# Altium footprint library HV9006_MEASUREBOARD.PCBLIB: 292 footprints (part 4 of 19)
Each footprint in its own frame and in the unit in brackets; x right, y up, seen from the top. Pads: shape width x height; smd on the part's side, far side on the other; paste and mask are expansions set on the pad; w line width, h text height; cw(c..) or ccw(c..) is an arc to the next point about the centre after c.
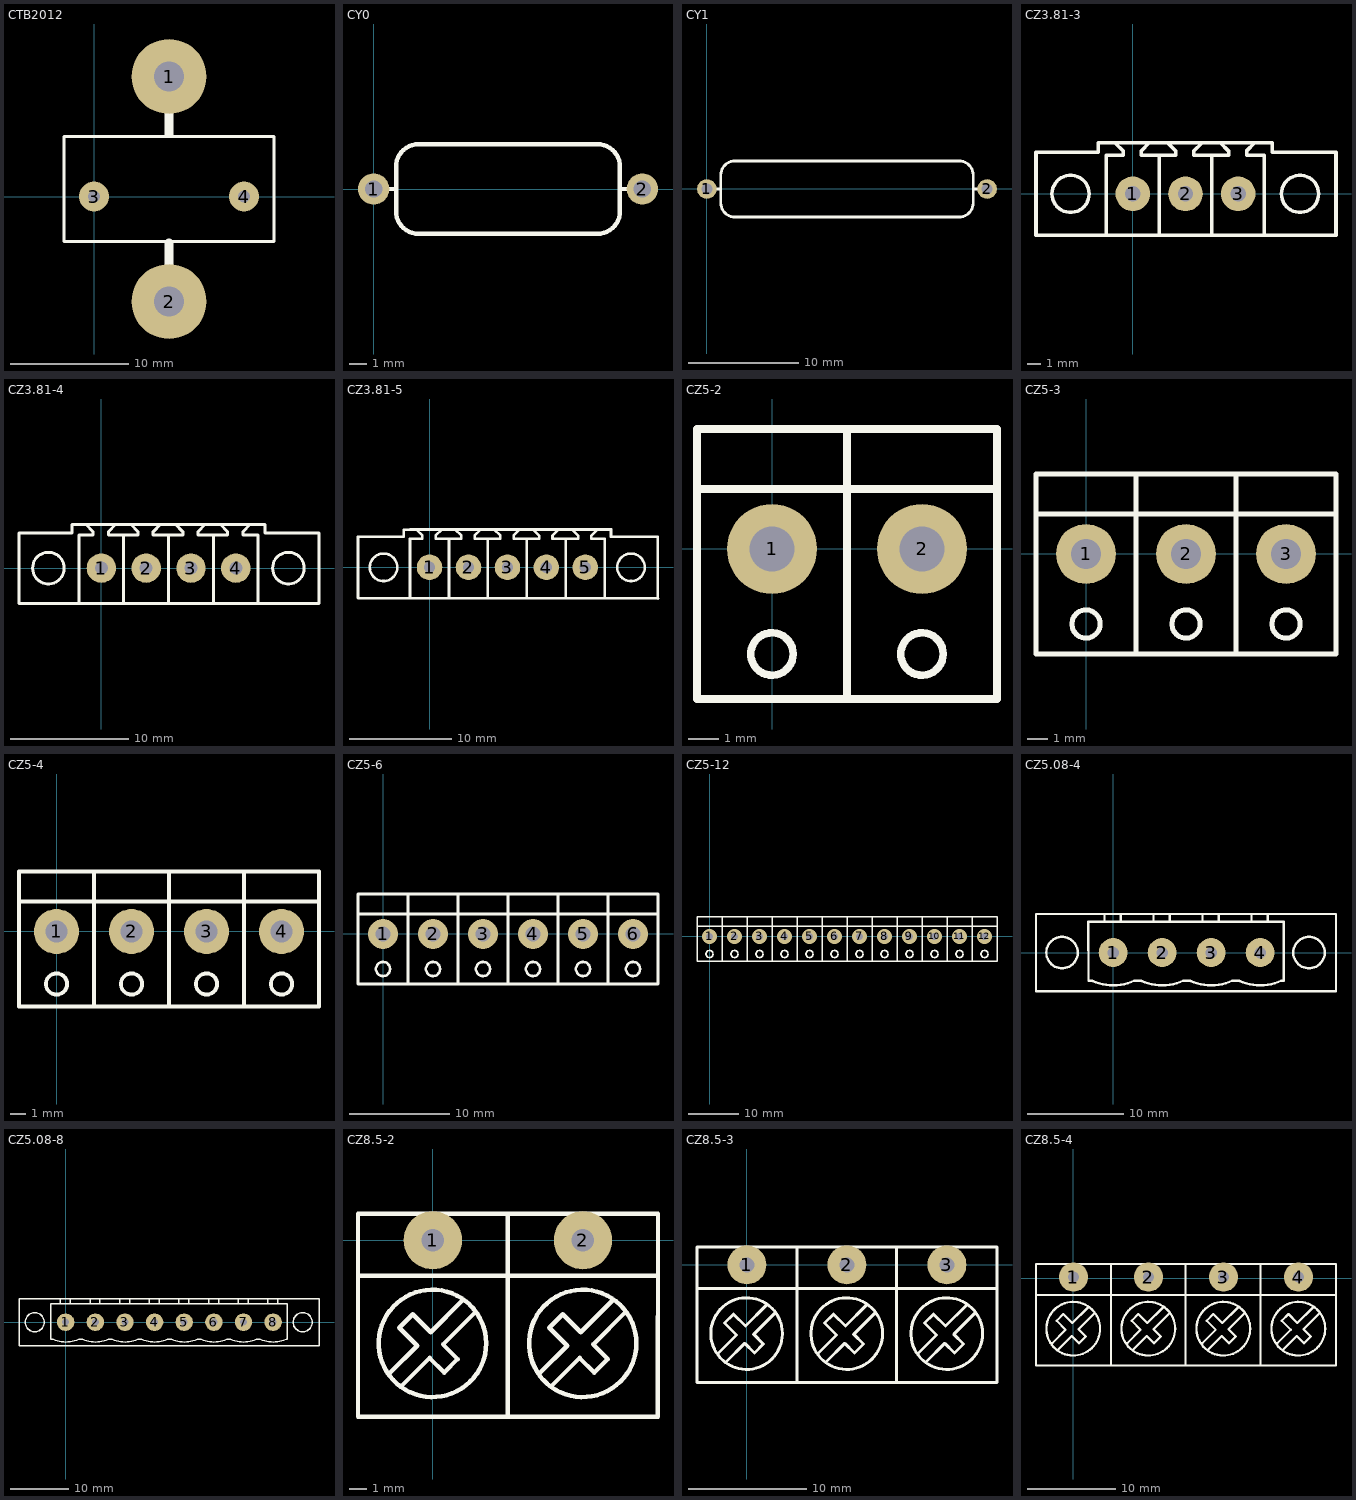
[diagram p3: the footprints below, top view; thin cyan lines are the x and y axes]

## CTB2012 [mil]
pads (4):
  round 250 hole 100: 1(250,400) 2(250,-350)
  round 100 hole 39: 3(0,0) 4(500,0)
Top Overlay:
  lines w10: -100,-150 600,-150 600,200 -100,200 -100,-150
  lines w30: 250,-350 250,-155 ; 250,210 250,400

## CY0 [mil]
pads (2):
  round 70 hole 39: 1(0,0) 2(600,0)
Top Overlay:
  lines w10: 0,0 50,0 ; 550,0 600,0 ; 50,-50 ccw(c100,-50) 100,-100 500,-100 ccw(c500,-50) 550,-50 550,50 ccw(c500,50) 500,100 100,100 ccw(c100,50) 50,50 50,-50

## CY1 [mil]
pads (2):
  round 70 hole 39: 1(0,0) 2(1000,0)
Top Overlay:
  lines w10: 0,0 50,0 ; 950,0 1000,0 ; 50,-50 ccw(c100,-50) 100,-100 900,-100 ccw(c900,-50) 950,-50 950,50 ccw(c900,50) 900,100 100,100 ccw(c100,50) 50,50 50,-50

## CZ3.81-3 [mm]
pads (3):
  round 2.5 hole 1.1: 1(0,0) 2(3.81,0) 3(7.62,0)
Top Overlay:
  circle w0.254: c12.09,0 r1.345
  circle w0.254: c-4.5,0 r1.345
  lines w0.254: -1.91,-3 -1.91,2.8 -0.7,2.8 -0.7,3.1 -1.3,3.7 ; 1.2,3.7 0.6,3.1 0.6,2.8 1.9,2.8 ; 1.9,-3 1.9,2.8 ; 2.51,3.7 3.11,3.1 3.11,2.8 1.9,2.8 ; 5.01,3.7 4.41,3.1 4.41,2.8 5.71,2.8 ; 5.71,-3 5.71,2.8 ; 6.32,3.7 6.92,3.1 6.92,2.8 5.71,2.8 ; 8.82,3.7 8.22,3.1 8.22,2.8 9.52,2.8 9.52,-3 ; -7,-3 14.69,-3 14.69,3 10.09,3 10.09,3.7 -1.9,3.7 -2.51,3.69 -2.51,3 -7,3 -7,-3

## CZ3.81-4 [mm]
pads (4):
  round 2.5 hole 1.1: 1(0,0) 2(3.81,0) 3(7.62,0) 4(11.43,0)
Top Overlay:
  circle w0.254: c15.9,0 r1.345
  circle w0.254: c-4.5,0 r1.345
  lines w0.254: -1.91,-3 -1.91,2.8 -0.7,2.8 -0.7,3.1 -1.3,3.7 ; 1.2,3.7 0.6,3.1 0.6,2.8 1.9,2.8 ; 1.9,-3 1.9,2.8 ; 2.51,3.7 3.11,3.1 3.11,2.8 1.9,2.8 ; 5.01,3.7 4.41,3.1 4.41,2.8 5.71,2.8 ; 5.71,-3 5.71,2.8 ; 6.32,3.7 6.92,3.1 6.92,2.8 5.71,2.8 ; 8.82,3.7 8.22,3.1 8.22,2.8 9.52,2.8 ; 9.52,-3 9.52,2.8 ; 10.13,3.7 10.73,3.1 10.73,2.8 9.52,2.8 ; 12.63,3.7 12.03,3.1 12.03,2.8 13.33,2.8 13.33,-3 ; -7,-3 18.5,-3 18.5,3 13.9,3 13.9,3.7 -1.9,3.7 -2.51,3.69 -2.51,3 -7,3 -7,-3

## CZ3.81-5 [mm]
pads (5):
  round 2.5 hole 1.1: 1(0,0) 2(3.81,0) 3(7.62,0) 4(11.43,0) 5(15.24,0)
Top Overlay:
  circle w0.254: c19.71,0 r1.345
  circle w0.254: c-4.5,0 r1.345
  lines w0.254: -1.91,-3 -1.91,2.8 -0.7,2.8 -0.7,3.1 -1.3,3.7 ; 1.2,3.7 0.6,3.1 0.6,2.8 1.9,2.8 ; 1.9,-3 1.9,2.8 ; 2.51,3.7 3.11,3.1 3.11,2.8 1.9,2.8 ; 5.01,3.7 4.41,3.1 4.41,2.8 5.71,2.8 ; 5.71,-3 5.71,2.8 ; 6.32,3.7 6.92,3.1 6.92,2.8 5.71,2.8 ; 8.82,3.7 8.22,3.1 8.22,2.8 9.52,2.8 ; 9.52,-3 9.52,2.8 ; 10.13,3.7 10.73,3.1 10.73,2.8 9.52,2.8 ; 12.63,3.7 12.03,3.1 12.03,2.8 13.33,2.8 ; 13.33,-3 13.33,2.8 ; 13.94,3.7 14.54,3.1 14.54,2.8 13.33,2.8 ; 16.44,3.7 15.84,3.1 15.84,2.8 17.14,2.8 17.14,-3 ; 17.71,3.7 17.71,3 22.31,3 22.31,-3 ; 18.5,3 17.767,3 17.767,3.7 -1.9,3.7 -2.51,3.69 -2.51,3 -7,3 -7,-3 22.352,-3.048

## CZ5-2 [mm]
pads (2):
  round 3 hole 1.5: 1(0,0) 2(5,0)
Top Overlay:
  circle w0.254: c5,-3.5 r0.707
  circle w0.254: c0,-3.5 r0.707
  lines w0.254: -2.5,2 7.5,2 ; 2.5,-5 2.5,4 ; -2.5,-5 7.5,-5 7.5,4 -2.5,4 -2.5,-5

## CZ5-3 [mm]
pads (3):
  round 3 hole 1.5: 1(0,0) 2(5,0) 3(10,0)
Top Overlay:
  circle w0.254: c0,-3.5 r0.707
  circle w0.254: c5,-3.5 r0.707
  circle w0.254: c10,-3.5 r0.707
  lines w0.254: -2.5,2 7.5,2 12.5,2 ; 2.5,-5 2.5,4 ; 7.5,-5 -2.5,-5 -2.5,4 7.5,4 ; 7.5,-5 7.5,4 ; 7.5,-5 12.5,-5 12.5,4 7.5,4

## CZ5-4 [mm]
pads (4):
  round 3 hole 1.5: 1(0,0) 2(5,0) 3(10,0) 4(15,0)
Top Overlay:
  circle w0.254: c0,-3.5 r0.707
  circle w0.254: c5,-3.5 r0.707
  circle w0.254: c10,-3.5 r0.707
  circle w0.254: c15,-3.5 r0.707
  lines w0.254: -2.5,2 7.5,2 12.5,2 17.5,2 ; 2.5,-5 2.5,4 ; 7.5,-5 -2.5,-5 -2.5,4 7.5,4 ; 7.5,-5 7.5,4 ; 7.5,-5 12.5,-5 ; 7.5,4 12.5,4 ; 12.5,-5 17.5,-5 17.5,4 12.5,4 ; 12.5,-5 12.5,4

## CZ5-6 [mm]
pads (6):
  round 3 hole 1.5: 1(0,0) 2(5,0) 3(10,0) 4(15,0) 5(20,0) 6(25,0)
Top Overlay:
  circle w0.254: c15,-3.5 r0.707
  circle w0.254: c10,-3.5 r0.707
  circle w0.254: c5,-3.5 r0.707
  circle w0.254: c0,-3.5 r0.707
  circle w0.254: c25,-3.5 r0.707
  circle w0.254: c20,-3.5 r0.707
  lines w0.254: -2.5,2 7.5,2 12.5,2 17.5,2 22.5,2 27.5,2 ; 2.5,-5 2.5,4 ; 7.5,-5 12.5,-5 ; 7.5,-5 7.5,4 ; 7.5,-5 -2.5,-5 -2.5,4 7.5,4 ; 7.5,4 12.5,4 ; 12.5,-5 12.5,4 ; 12.5,-5 17.5,-5 ; 12.5,4 17.5,4 ; 17.5,-5 17.5,4 ; 17.5,-5 22.5,-5 ; 17.5,-5 17.5,4 ; 17.5,4 22.5,4 ; 22.5,-5 22.5,4 ; 22.5,-5 27.5,-5 27.5,4 22.5,4

## CZ5-12 [mm]
pads (12):
  round 3 hole 1.5: 1(0,0) 2(5,0) 3(10,0) 4(15,0) 5(20,0) 6(25,0) 7(30,0) 8(35,0) 9(40,0) 10(45,0) 11(50,0) 12(55,0)
Top Overlay:
  circle w0.254: c5,-3.5 r0.707
  circle w0.254: c0,-3.5 r0.707
  circle w0.254: c10,-3.5 r0.707
  circle w0.254: c15,-3.5 r0.707
  circle w0.254: c20,-3.5 r0.707
  circle w0.254: c25,-3.5 r0.707
  circle w0.254: c30,-3.5 r0.707
  circle w0.254: c35,-3.5 r0.707
  circle w0.254: c40,-3.5 r0.707
  circle w0.254: c45,-3.5 r0.707
  circle w0.254: c50,-3.5 r0.707
  circle w0.254: c55,-3.5 r0.707
  lines w0.254: -2.5,2 57.5,2 ; 2.5,-5 2.5,4 ; 7.5,-5 7.5,4 ; 12.5,-5 12.5,4 ; 17.5,-5 17.5,4 ; 22.5,-5 22.5,4 ; 27.5,-5 27.5,4 ; 32.5,-5 32.5,4 ; 37.5,-5 37.5,4 ; 42.5,-5 42.5,4 ; 47.5,-5 47.5,4 ; 52.5,-5 52.5,4 ; -2.5,-5 -2.5,4 57.5,4 57.5,-5 -2.5,-5

## CZ5.08-4 [mm]
pads (4):
  round 3 hole 1.2: 1(0,0) 2(5.08,0) 3(10.16,0) 4(15.24,0)
Top Overlay:
  circle w0.254: c20.3,0 r1.628
  circle w0.254: c-5.3,0 r1.628
  lines w0.254: -0.9,3.2 -0.9,4 ; 0.8,3.2 0.8,4 ; 2.893,-2.9 2.204,-2.9 cw(c0,1.709) -2.171,-2.916 -2.555,-2.916 -2.58,3.2 17.7,3.2 17.691,-2.9 17.444,-2.9 cw(c15.24,1.709) 13.069,-2.916 ; 2.909,-2.916 ccw(c5.08,1.709) 7.284,-2.9 7.973,-2.9 ; 4.18,3.2 4.18,4 ; 5.88,3.2 5.88,4 ; 7.989,-2.916 ccw(c10.16,1.709) 12.364,-2.9 13.053,-2.9 ; 9.26,3.2 9.26,4 ; 10.96,3.2 10.96,4 ; 14.34,3.2 14.34,4 ; 16.04,3.2 16.04,4 ; -8,-4 -8,4 23.1,4 23.1,-4 -8,-4

## CZ5.08-8 [mm]
pads (8):
  round 3 hole 1.2: 1(0,0) 2(5.08,0) 3(10.16,0) 4(15.24,0) 5(20.32,0) 6(25.4,0) 7(30.48,0) 8(35.56,0)
Top Overlay:
  circle w0.254: c-5.3,0 r1.628
  circle w0.254: c40.62,0 r1.628
  lines w0.254: -0.9,3.2 -0.9,4 ; 0.8,3.2 0.8,4 ; 2.893,-2.9 2.204,-2.9 cw(c0,1.709) -2.171,-2.916 -2.555,-2.916 -2.58,3.2 38.02,3.2 38.011,-2.9 37.764,-2.9 cw(c35.56,1.709) 33.389,-2.916 ; 2.909,-2.916 ccw(c5.08,1.709) 7.284,-2.9 7.973,-2.9 ; 4.18,3.2 4.18,4 ; 5.88,3.2 5.88,4 ; 7.989,-2.916 ccw(c10.16,1.709) 12.364,-2.9 13.053,-2.9 ; 9.26,3.2 9.26,4 ; 10.96,3.2 10.96,4 ; 13.069,-2.916 ccw(c15.24,1.709) 17.444,-2.9 18.149,-2.916 ccw(c20.32,1.709) 22.524,-2.9 23.213,-2.9 ; 14.34,3.2 14.34,4 ; 16.04,3.2 16.04,4 ; 19.42,3.2 19.42,4 ; 21.12,3.2 21.12,4 ; 23.229,-2.916 ccw(c25.4,1.709) 27.604,-2.9 28.309,-2.916 ccw(c30.48,1.709) 32.684,-2.9 33.373,-2.9 ; 24.5,3.2 24.5,4 ; 26.2,3.2 26.2,4 ; 29.58,3.2 29.58,4 ; 31.28,3.2 31.28,4 ; 34.66,3.2 34.66,4 ; 36.36,3.2 36.36,4 ; -8,-4 -8,4 43.42,4 43.42,-4 -8,-4

## CZ8.5-2 [mil]
pads (2):
  round 130 hole 50: 1(0,0) 2(334.65,0)
Top Overlay:
  circle w10: c-1,-230 r119.77
  circle w10: c334,-230 r119.77
  lines w10: -167,-197 -167,0 ; -167,-79 502,-79 ; -95,-295 -35,-235 -75,-195 -45,-165 -5,-205 65,-135 ; -70,-325 -7.5,-262.5 25,-295 55,-265 22.68,-232.32 95,-160 ; 167.32,-394 167.32,59 ; 239.65,-295 299.65,-235 259.65,-195 289.65,-165 329.65,-205 399.65,-135 ; 264.65,-325 327.15,-262.5 359.65,-295 389.65,-265 357.33,-232.32 429.65,-160 ; 501.97,-394 502,59 -167,59 -167,-394 502,-394 ; 502,-197 502,0

## CZ8.5-3 [mil]
pads (3):
  round 130 hole 50: 1(0,0) 2(334.65,0) 3(669.29,0)
Top Overlay:
  circle w10: c334,-230 r119.77
  circle w10: c-1,-230 r119.77
  circle w10: c668.65,-230 r119.77
  lines w10: -167,-197 -167,0 ; -167,-79 836.65,-80 ; -95,-295 -35,-235 -75,-195 -45,-165 -5,-205 65,-135 ; -70,-325 -7.5,-262.5 25,-295 55,-265 22.68,-232.32 95,-160 ; 167.32,-394 167.32,59 ; 239.65,-295 299.65,-235 259.65,-195 289.65,-165 329.65,-205 399.65,-135 ; 264.65,-325 327.15,-262.5 359.65,-295 389.65,-265 357.33,-232.32 429.65,-160 ; 500,-394 500,59 ; 574.29,-295 634.29,-235 594.29,-195 624.29,-165 664.29,-205 734.29,-135 ; 599.29,-325 661.79,-262.5 694.29,-295 724.29,-265 691.97,-232.32 764.29,-160 ; 836.65,-197 836.65,0 ; -167,-394 -167,59 836.65,59 836.61,-394 -167,-394

## CZ8.5-4 [mil]
pads (4):
  round 130 hole 50: 1(0,5) 2(334.65,5) 3(669.29,5) 4(1003.94,5)
Top Overlay:
  circle w10: c1003.29,-225 r119.77
  circle w10: c334,-225 r119.77
  circle w10: c-1,-225 r119.77
  circle w10: c668.65,-225 r119.77
  lines w10: -167,-192 -167,5 ; -167,-74 1171.29,-75 ; -95,-290 -35,-230 -75,-190 -45,-160 -5,-200 65,-130 ; -70,-320 -7.5,-257.5 25,-290 55,-260 22.68,-227.32 95,-155 ; 167.32,-389 167.32,64 ; 239.65,-290 299.65,-230 259.65,-190 289.65,-160 329.65,-200 399.65,-130 ; 264.65,-320 327.15,-257.5 359.65,-290 389.65,-260 357.33,-227.32 429.65,-155 ; 500,-389 500,64 ; 574.29,-290 634.29,-230 594.29,-190 624.29,-160 664.29,-200 734.29,-130 ; 599.29,-320 661.79,-257.5 694.29,-290 724.29,-260 691.97,-227.32 764.29,-155 ; 835,-389 835,64 ; 908.94,-290 968.94,-230 928.94,-190 958.94,-160 998.94,-200 1068.94,-130 ; 933.94,-320 996.44,-257.5 1028.94,-290 1058.94,-260 1026.62,-227.32 1098.94,-155 ; 1171.29,-192 1171.29,5 ; 1171.26,-389 1171.29,64 ; 1171.26,-389 -167,-389 -167,64 1171.29,64 ; 1171.26,-389 1171.29,64